# EAGLE library part AD8630 (library BeaverBoard)
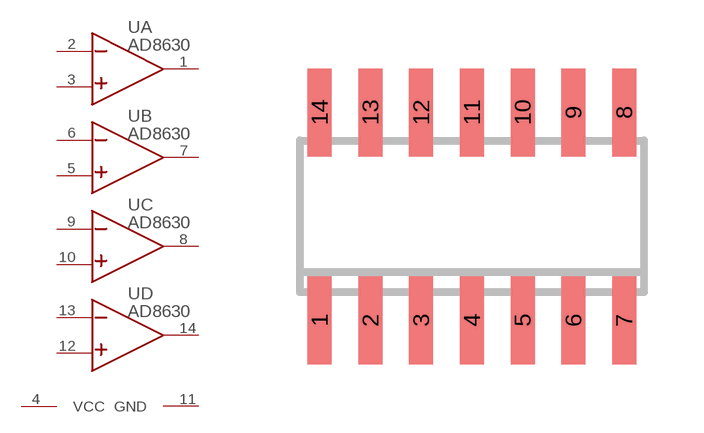
[diagram p4: symbol with the pads of SO14; footprint SO14]

Designator prefix -; gates A=OPAMP B=OPAMP C=OPAMP D=OPAMP S=VCC-GND

## AD8630  [SO14]
1  A:O
2  A:N
3  A:P
4  S:VCC  sup
5  B:P
6  B:N
7  B:O
8  C:O
9  C:N
10  C:P
11  S:GND  sup
12  D:P
13  D:N
14  D:O

## Footprint SO14 (pad centres in mm)
SMALL OUTLINE INTEGRATED CIRCUIT body 3.9 mm/JEDEC MS-012AC
smd 0.6 x 2.2: 1 -3.81,-2.6; 2 -2.54,-2.6; 3 -1.27,-2.6; 4 0,-2.6; 5 1.27,-2.6; 6 2.54,-2.6; 7 3.81,-2.6; 8 3.81,2.6; 9 2.54,2.6; 10 1.27,2.6; 11 0,2.6; 12 -1.27,2.6; 13 -2.54,2.6; 14 -3.81,2.6